# Altium footprint library Connector_Molex.PcbLib: 815 footprints (part 31 of 51)
Each footprint in its own frame and in the unit in brackets; x right, y up, seen from the top. Pads: shape width x height; smd on the part's side, far side on the other; paste and mask are expansions set on the pad; w line width, h text height; cw(c..) or ccw(c..) is an arc to the next point about the centre after c.
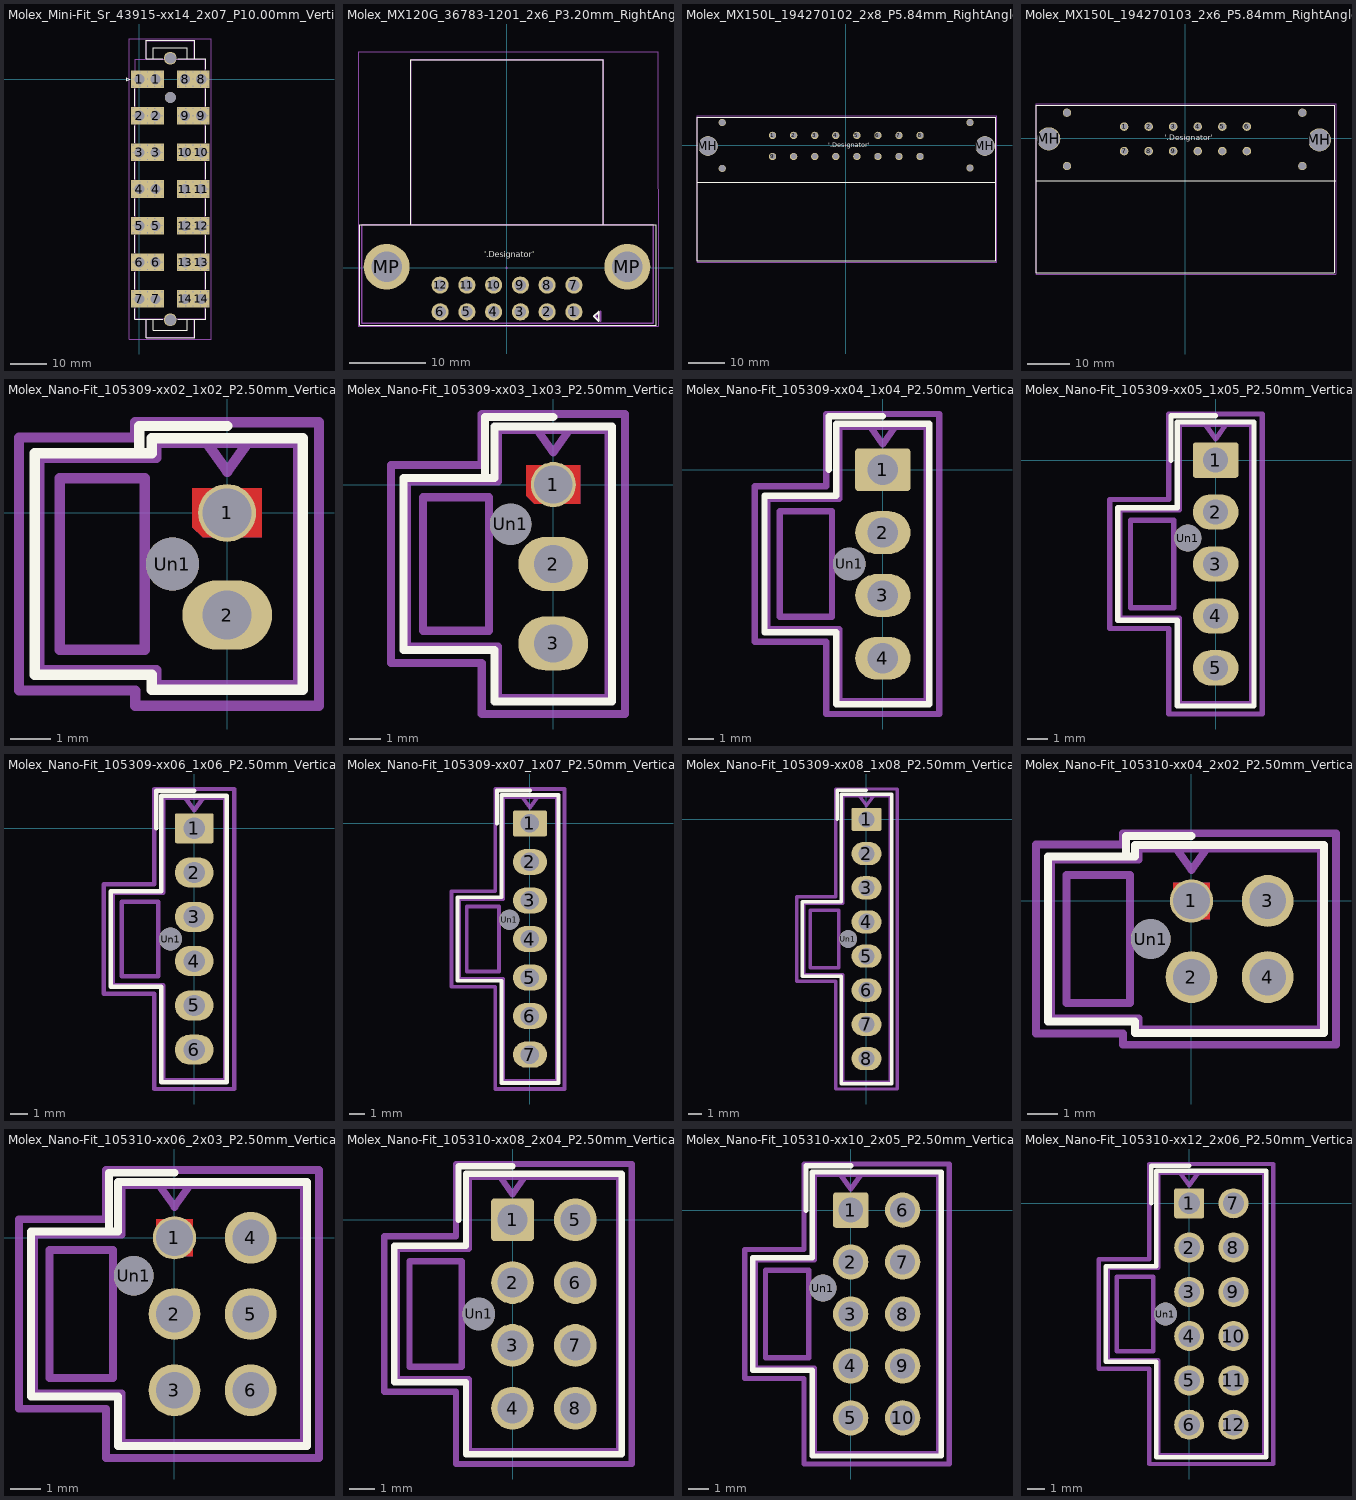
[diagram p30: the footprints below, top view; thin cyan lines are the x and y axes]

## Molex_Mini-Fit_Sr_43915-xx14_2x07_P10.00mm_Vertical_ThermalVias [mm]
pads (213):
  rrect25% 0.6x0.6 hole 0.3: 1(-1.8,-1.95) 1(-1.8,0) 1(-1.8,1.95) 1(0.2,-1.95) 1(0.2,1.95) 1(2.2,-1.95) 1(2.2,0) 1(2.2,1.95) 1(4.2,-1.95) 1(4.2,1.95) 1(6.2,-1.95) 1(6.2,0) 1(6.2,1.95)
  rect 4.5x4.8 hole 2.8: 1(0,0) 1(4.4,0) 2(0,-10) 2(4.4,-10) 3(0,-20) 3(4.4,-20) 4(0,-30) 4(4.4,-30) 5(0,-40) 5(4.4,-40) 6(0,-50) 6(4.4,-50) 7(0,-60) 7(4.4,-60) 8(12.46,0) 8(16.86,0) 9(12.46,-10) 9(16.86,-10) 10(12.46,-20) 10(16.86,-20) 11(12.46,-30) 11(16.86,-30) 12(12.46,-40) 12(16.86,-40) 13(12.46,-50) 13(16.86,-50) 14(12.46,-60) 14(16.86,-60)
  round 0.6 hole 0.3: 2(-1.8,-11.95) 2(-1.8,-10) 2(-1.8,-8.05) 2(0.2,-11.95) 2(0.2,-8.05) 2(2.2,-11.95) 2(2.2,-10) 2(2.2,-8.05) 2(4.2,-11.95) 2(4.2,-8.05) 2(6.2,-11.95) 2(6.2,-10) 2(6.2,-8.05) 3(-1.8,-21.95) 3(-1.8,-20) 3(-1.8,-18.05) 3(0.2,-21.95) 3(0.2,-18.05) 3(2.2,-21.95) 3(2.2,-20) 3(2.2,-18.05) 3(4.2,-21.95) 3(4.2,-18.05) 3(6.2,-21.95) 3(6.2,-20) 3(6.2,-18.05) 4(-1.8,-31.95) 4(-1.8,-30) 4(-1.8,-28.05) 4(0.2,-31.95) 4(0.2,-28.05) 4(2.2,-31.95) 4(2.2,-30) 4(2.2,-28.05) 4(4.2,-31.95) 4(4.2,-28.05) 4(6.2,-31.95) 4(6.2,-30) 4(6.2,-28.05) 5(-1.8,-41.95) 5(-1.8,-40) 5(-1.8,-38.05) 5(0.2,-41.95) 5(0.2,-38.05) 5(2.2,-41.95) 5(2.2,-40) 5(2.2,-38.05) 5(4.2,-41.95) 5(4.2,-38.05) 5(6.2,-41.95) 5(6.2,-40) 5(6.2,-38.05) 6(-1.8,-51.95) 6(-1.8,-50) 6(-1.8,-48.05) 6(0.2,-51.95) 6(0.2,-48.05) 6(2.2,-51.95) 6(2.2,-50) 6(2.2,-48.05) 6(4.2,-51.95) 6(4.2,-48.05) 6(6.2,-51.95) 6(6.2,-50) 6(6.2,-48.05) 7(-1.8,-61.95) 7(-1.8,-60) 7(-1.8,-58.05) 7(0.2,-61.95) 7(0.2,-58.05) 7(2.2,-61.95) 7(2.2,-60) 7(2.2,-58.05) 7(4.2,-61.95) 7(4.2,-58.05) 7(6.2,-61.95) 7(6.2,-60) 7(6.2,-58.05) 8(10.66,-1.95) 8(10.66,0) 8(10.66,1.95) 8(12.66,-1.95) 8(12.66,1.95) 8(14.66,-1.95) 8(14.66,0) 8(14.66,1.95) 8(16.66,-1.95) 8(16.66,1.95) 8(18.66,-1.95) 8(18.66,0) 8(18.66,1.95) 9(10.66,-11.95) 9(10.66,-10) 9(10.66,-8.05) 9(12.66,-11.95) 9(12.66,-8.05) 9(14.66,-11.95) 9(14.66,-10) 9(14.66,-8.05) 9(16.66,-11.95) 9(16.66,-8.05) 9(18.66,-11.95) 9(18.66,-10) 9(18.66,-8.05) 10(10.66,-21.95) 10(10.66,-20) 10(10.66,-18.05) 10(12.66,-21.95) 10(12.66,-18.05) 10(14.66,-21.95) 10(14.66,-20) 10(14.66,-18.05) 10(16.66,-21.95) 10(16.66,-18.05) 10(18.66,-21.95) 10(18.66,-20) 10(18.66,-18.05) 11(10.66,-31.95) 11(10.66,-30) 11(10.66,-28.05) 11(12.66,-31.95) 11(12.66,-28.05) 11(14.66,-31.95) 11(14.66,-30) 11(14.66,-28.05) 11(16.66,-31.95) 11(16.66,-28.05) 11(18.66,-31.95) 11(18.66,-30) 11(18.66,-28.05) 12(10.66,-41.95) 12(10.66,-40) 12(10.66,-38.05) 12(12.66,-41.95) 12(12.66,-38.05) 12(14.66,-41.95) 12(14.66,-40) 12(14.66,-38.05) 12(16.66,-41.95) 12(16.66,-38.05) 12(18.66,-41.95) 12(18.66,-40) 12(18.66,-38.05) 13(10.66,-51.95) 13(10.66,-50) 13(10.66,-48.05) 13(12.66,-51.95) 13(12.66,-48.05) 13(14.66,-51.95) 13(14.66,-50) 13(14.66,-48.05) 13(16.66,-51.95) 13(16.66,-48.05) 13(18.66,-51.95) 13(18.66,-50) 13(18.66,-48.05) 14(10.66,-61.95) 14(10.66,-60) 14(10.66,-58.05) 14(12.66,-61.95) 14(12.66,-58.05) 14(14.66,-61.95) 14(14.66,-60) 14(14.66,-58.05) 14(16.66,-61.95) 14(16.66,-58.05) 14(18.66,-61.95) 14(18.66,-60) 14(18.66,-58.05)
  round 3.5 hole 3: Un1(8.43,5.705) Un3(8.43,-65.705)
  round 3 hole 3: Un2(8.43,-5)
F.SilkS:
  lines w0.254: -1.27,-62.66 -1.27,-65.57 6.43,-65.57 ; -1.27,-57.34 -1.27,-52.66 ; -1.27,-47.34 -1.27,-42.66 ; -1.27,-37.34 -1.27,-32.66 ; -1.27,-27.34 -1.27,-22.66 ; -1.27,-17.34 -1.27,-12.66 ; -1.27,-7.34 -1.27,-2.66 ; 1.81,-65.57 1.81,-70.57 15.05,-70.57 15.05,-65.57 ; 3.81,-65.57 3.81,-68.57 13.05,-68.57 13.05,-65.57 ; 3.81,5.57 3.81,8.57 13.05,8.57 13.05,5.57 ; 6.43,5.57 1.81,5.57 1.81,10.57 15.05,10.57 15.05,5.57 ; 10.43,-65.57 18.13,-65.57 18.13,-62.66 ; 10.43,5.57 18.13,5.57 18.13,2.66 ; 18.13,-57.34 18.13,-52.66 ; 18.13,-47.34 18.13,-42.66 ; 18.13,-37.34 18.13,-32.66 ; 18.13,-27.34 18.13,-22.66 ; 18.13,-17.34 18.13,-12.66 ; 18.13,-7.34 18.13,-2.66 ; -3.45,-0.4 -2.65,0 -3.45,0.4 -3.45,-0.4
B.SilkS:
  lines w0.254: -2.51,-2.66 6.91,-2.66 6.91,2.66 -2.51,2.66 -2.51,-2.66
Top Assembly:
  lines w0.254: -1.15,-1.5 0.971,0 -1.15,1.5 ; 1.93,-65.45 1.93,-70.45 14.93,-70.45 14.93,-65.45 ; 1.93,5.45 1.93,10.45 14.93,10.45 14.93,5.45 ; -1.15,-65.45 18.01,-65.45 18.01,5.45 -1.15,5.45 -1.15,-65.45
  text "'.Designator'" at 4.383,-65.59 h1
Top Courtyard:
  lines w0.254: -2.75,-70.95 19.61,-70.95 19.61,10.96 -2.75,10.96 -2.75,-70.95
Top Designator:
  text ".Designator" at 0.462,-30.503 h1.52

## Molex_MX120G_36783-1201_2x6_P3.20mm_RightAngle_THT [mm]
pads (14):
  round 2.25 hole 1.5: 1(8.81,-5.758) 2(5.31,-5.758) 3(1.81,-5.758) 4(-1.69,-5.758) 5(-5.19,-5.758) 6(-8.69,-5.758) 7(8.81,-2.258) 8(5.31,-2.258) 9(1.81,-2.258) 10(-1.69,-2.258) 11(-5.19,-2.258) 12(-8.69,-2.258)
  round 6 hole 4: MP(-15.69,0.142) MP(15.81,0.142)
F.SilkS:
  lines w0.1: -12.54,5.642 -12.54,27.242 12.66,27.242 12.66,5.642 ; -19.177,-7.493 19.558,-7.493 19.558,5.642 -19.177,5.642 -19.177,-7.493
  lines w0.254: 11.43,-6.35 12.065,-6.985 12.065,-5.715 11.43,-6.35
  text "'.Designator'" at -2.939,1.11 h1.27
Top Component Center:
  lines w0.127: -0.127,0 0.127,0 ; 0,-0.127 0,0.127
Top Assembly:
  lines w0.2: -12.54,5.642 -12.54,27.242 12.66,27.242 12.66,5.642 ; -18.923,-7.239 19.177,-7.239 19.177,5.642 -18.923,5.642 -18.923,-7.239
  lines w0.254: 11.684,-6.35 12.319,-5.715 12.319,-6.985 11.684,-6.35
  text "'.Designator'" at -2.685,1.618 h1.27
Top Courtyard:
  lines w0.1: -19.431,-7.62 -19.431,28.242 19.812,28.242 19.812,-7.62 -19.431,-7.62
Top Designator:
  text ".Designator" at -2.799,1.56 h1.52
3D body "Molex_MX120G_36783-1201_2x6_P3.20mm_RightAngle_THT.stp": height 24.08, standoff -3.54, extent -18.552,-6.169 18.806,26.289

## Molex_MX150L_194270102_2x8_P5.84mm_RightAngle [mil]
pads (22):
  round 80 / inner round 60 / far side round 80 hole 60 paste-99999 mask+0: 1(-800,110) 2(-570,110) 3(-340,110) 4(-110,110) 5(120,110) 6(350,110) 7(580,110) 8(810,110) 9(-800,-120) 10(-570,-120) 11(-340,-120) 12(-110,-120) 13(120,-120) 14(350,-120) 15(580,-120) 16(810,-120)
  round 216.54 hole 206.69 unplated paste-99999 mask+0: MH(-1506,-5) MH(1518,-5)
  round 78.74 hole 68.9 unplated paste-99999 mask+0: MH(-1350,-250) MH(-1350,250) MH(1355,-245) MH(1355,250)
F.SilkS:
  lines w6: -1624,-1260 1636,-1260 1636,311 -1624,311 -1624,-1260
  lines w10: -1620,-400 1635,-400
  text "'.Designator'" at -194.84,-17.85 h50
Top Component Center:
  lines w5: -5,0 5,0 ; 0,-5 0,5
Top Assembly:
  lines w10: -1625,-1275 1650,-1275 1650,325 -1625,325 -1625,-1275
Top Designator:
  text ".Designator" at -294.9,200.01 h60
3D body "Molex_MX150L_194270102_2x8_P5.84mm_RightAngle.stp": height 1272.66, standoff -129.64, extent -1645.25,-1251 1655.25,310

## Molex_MX150L_194270103_2x6_P5.84mm_RightAngle [mil]
pads (18):
  round 80 / inner round 60 / far side round 80 hole 60 paste-99999 mask+0: 1(-575,110) 2(-345,110) 3(-115,110) 4(115,110) 5(345,110) 6(575,110) 7(-575,-120) 8(-345,-120) 9(-115,-120) 10(115,-120) 11(345,-120) 12(575,-120)
  round 216.54 hole 206.69 unplated paste-99999 mask+0: MH(-1281,-5) MH(1255,-15)
  round 78.74 hole 68.9 unplated paste-99999 mask+0: MH(-1110,-260) MH(-1110,240) MH(1095,-260) MH(1095,240)
F.SilkS:
  lines w6: -1399,-1260 1395,-1260 1395,311 -1399,311 -1399,-1260
  lines w10: -1395,-400 1410,-400
  text "'.Designator'" at -194.84,-17.85 h50
Top Component Center:
  lines w5: -5,0 5,0 ; 0,-5 0,5
Top Assembly:
  lines w10: -1400,-1275 1410,-1275 1410,325 -1400,325 -1400,-1275
Top Designator:
  text ".Designator" at -299.9,205.01 h60
3D body "Molex_MX150L_194270103_2x6_P5.84mm_RightAngle.stp": height 1259.75, standoff -142.56, extent -1392,-1250 1402,311

## Molex_Nano-Fit_105309-xx02_1x02_P2.50mm_Vertical [mm]
pads (3):
  round 1.417 hole 1.2: 1(0,0)
  rrect100% 2.2x1.7 hole 1.2: 2(0,-2.5)
  round 1.3 hole 1.3: Un1(-1.34,-1.25)
F.Cu:
  region: 0.85,-0.6 -0.596,-0.6 -0.85,-0.346 -0.85,0.6 0.85,0.6
B.Cu:
  region: 0.85,-0.6 -0.596,-0.6 -0.85,-0.346 -0.85,0.6 0.85,0.6
F.SilkS:
  lines w0.254: -2.15,1.46 -2.15,2.13 0,2.13 ; -4.71,-3.96 -4.71,-1.25 -4.71,1.46 -1.85,1.46 -1.85,1.83 1.85,1.83 1.85,-1.25 1.85,-4.33 -1.85,-4.33 -1.85,-3.96 -4.71,-3.96
F.Mask:
  region: 0.85,-0.6 -0.596,-0.6 -0.85,-0.346 -0.85,0.6 0.85,0.6
B.Mask:
  region: 0.85,-0.6 -0.596,-0.6 -0.85,-0.346 -0.85,0.6 0.85,0.6
Top Assembly:
  lines w0.254: -0.5,1.72 0,1.013 0.5,1.72 ; -4.6,-3.85 -4.6,-1.25 -4.6,1.35 -1.74,1.35 -1.74,1.72 1.74,1.72 1.74,-1.25 1.74,-4.22 -1.74,-4.22 -1.74,-3.85 -4.6,-3.85 ; -4.1,-3.35 -4.1,0.85 -2.02,0.85 -2.02,-3.35 -4.1,-3.35
  text "'.Designator'" at 1.831,-4.77 h0.87
Top Courtyard:
  lines w0.254: -5.1,-4.35 -5.1,-1.25 -5.1,1.85 -2.25,1.85 -2.25,2.22 2.25,2.22 2.25,-1.25 2.25,-4.72 -2.25,-4.72 -2.25,-4.35 -5.1,-4.35
Top Designator:
  text ".Designator" at -9.043,-1.784 h1.52

## Molex_Nano-Fit_105309-xx03_1x03_P2.50mm_Vertical [mm]
pads (4):
  round 1.417 hole 1.2: 1(0,0)
  rrect100% 2.2x1.7 hole 1.2: 2(0,-2.5) 3(0,-5)
  round 1.3 hole 1.3: Un1(-1.34,-1.25)
F.Cu:
  region: 0.85,-0.6 -0.596,-0.6 -0.85,-0.346 -0.85,0.6 0.85,0.6
B.Cu:
  region: 0.85,-0.6 -0.596,-0.6 -0.85,-0.346 -0.85,0.6 0.85,0.6
F.SilkS:
  lines w0.254: -2.15,0.21 -2.15,2.13 0,2.13 ; -4.71,-5.21 -1.85,-5.21 -1.85,-6.83 1.85,-6.83 1.85,-2.5 1.85,1.83 -1.85,1.83 -1.85,0.21 -4.71,0.21 -4.71,-2.5 -4.71,-5.21
F.Mask:
  region: 0.85,-0.6 -0.596,-0.6 -0.85,-0.346 -0.85,0.6 0.85,0.6
B.Mask:
  region: 0.85,-0.6 -0.596,-0.6 -0.85,-0.346 -0.85,0.6 0.85,0.6
Top Assembly:
  lines w0.254: -0.5,1.72 0,1.013 0.5,1.72 ; -4.6,-5.1 -1.74,-5.1 -1.74,-6.72 1.74,-6.72 1.74,-2.5 1.74,1.72 -1.74,1.72 -1.74,0.1 -4.6,0.1 -4.6,-2.5 -4.6,-5.1 ; -4.1,-4.6 -2.02,-4.6 -2.02,-0.4 -4.1,-0.4 -4.1,-4.6
  text "'.Designator'" at 1.831,-6.02 h0.87
Top Courtyard:
  lines w0.254: -5.1,-5.61 -2.25,-5.61 -2.25,-7.22 2.25,-7.22 2.25,-2.5 2.25,2.22 -2.25,2.22 -2.25,0.61 -5.1,0.61 -5.1,-2.5 -5.1,-5.61
Top Designator:
  text ".Designator" at -9.043,-3.008 h1.52

## Molex_Nano-Fit_105309-xx04_1x04_P2.50mm_Vertical [mm]
pads (5):
  rrect15% 2.2x1.7 hole 1.2: 1(0,0)
  rrect100% 2.2x1.7 hole 1.2: 2(0,-2.5) 3(0,-5) 4(0,-7.5)
  round 1.3 hole 1.3: Un1(-1.34,-3.75)
F.SilkS:
  lines w0.254: -2.15,0 -2.15,2.13 0,2.13 ; -4.71,-6.46 -4.71,-3.75 -4.71,-1.04 -1.85,-1.04 -1.85,1.83 1.85,1.83 1.85,-3.75 1.85,-9.33 -1.85,-9.33 -1.85,-6.46 -4.71,-6.46
Top Assembly:
  lines w0.254: -0.5,1.72 0,1.013 0.5,1.72 ; -4.6,-6.35 -4.6,-3.75 -4.6,-1.15 -1.74,-1.15 -1.74,1.72 1.74,1.72 1.74,-3.75 1.74,-9.22 -1.74,-9.22 -1.74,-6.35 -4.6,-6.35 ; -4.1,-5.85 -4.1,-1.65 -2.02,-1.65 -2.02,-5.85 -4.1,-5.85
  text "'.Designator'" at 1.831,-7.27 h0.87
Top Courtyard:
  lines w0.254: -5.1,-6.85 -5.1,-3.75 -5.1,-0.65 -2.25,-0.65 -2.25,2.22 2.25,2.22 2.25,-3.75 2.25,-9.72 -2.25,-9.72 -2.25,-6.85 -5.1,-6.85
Top Designator:
  text ".Designator" at -9.043,-4.258 h1.52

## Molex_Nano-Fit_105309-xx05_1x05_P2.50mm_Vertical [mm]
pads (6):
  rrect15% 2.2x1.7 hole 1.2: 1(0,0)
  rrect100% 2.2x1.7 hole 1.2: 2(0,-2.5) 3(0,-5) 4(0,-7.5) 5(0,-10)
  round 1.3 hole 1.3: Un1(-1.34,-3.75)
F.SilkS:
  lines w0.254: -2.15,0 -2.15,2.13 0,2.13 ; -4.71,-7.71 -4.71,-5 -4.71,-2.29 -1.85,-2.29 -1.85,1.83 1.85,1.83 1.85,-5 1.85,-11.83 -1.85,-11.83 -1.85,-7.71 -4.71,-7.71
Top Assembly:
  lines w0.254: -0.5,1.72 0,1.013 0.5,1.72 ; -4.6,-7.6 -4.6,-5 -4.6,-2.4 -1.74,-2.4 -1.74,1.72 1.74,1.72 1.74,-5 1.74,-11.72 -1.74,-11.72 -1.74,-7.6 -4.6,-7.6 ; -4.1,-7.1 -4.1,-2.9 -2.02,-2.9 -2.02,-7.1 -4.1,-7.1
  text "'.Designator'" at 1.831,-8.52 h0.87
Top Courtyard:
  lines w0.254: -5.1,-8.1 -5.1,-5 -5.1,-1.9 -2.25,-1.9 -2.25,2.22 2.25,2.22 2.25,-5 2.25,-12.22 -2.25,-12.22 -2.25,-8.1 -5.1,-8.1
Top Designator:
  text ".Designator" at -9.043,-5.508 h1.52

## Molex_Nano-Fit_105309-xx06_1x06_P2.50mm_Vertical [mm]
pads (7):
  rrect15% 2.2x1.7 hole 1.2: 1(0,0)
  rrect100% 2.2x1.7 hole 1.2: 2(0,-2.5) 3(0,-5) 4(0,-7.5) 5(0,-10) 6(0,-12.5)
  round 1.3 hole 1.3: Un1(-1.34,-6.25)
F.SilkS:
  lines w0.254: -2.15,0 -2.15,2.13 0,2.13 ; -4.71,-8.96 -1.85,-8.96 -1.85,-14.33 1.85,-14.33 1.85,-6.25 1.85,1.83 -1.85,1.83 -1.85,-3.54 -4.71,-3.54 -4.71,-6.25 -4.71,-8.96
Top Assembly:
  lines w0.254: -0.5,1.72 0,1.013 0.5,1.72 ; -4.6,-8.85 -1.74,-8.85 -1.74,-14.22 1.74,-14.22 1.74,-6.25 1.74,1.72 -1.74,1.72 -1.74,-3.65 -4.6,-3.65 -4.6,-6.25 -4.6,-8.85 ; -4.1,-8.35 -2.02,-8.35 -2.02,-4.15 -4.1,-4.15 -4.1,-8.35
  text "'.Designator'" at 1.831,-9.77 h0.87
Top Courtyard:
  lines w0.254: -5.1,-9.35 -2.25,-9.35 -2.25,-14.72 2.25,-14.72 2.25,-6.25 2.25,2.22 -2.25,2.22 -2.25,-3.15 -5.1,-3.15 -5.1,-6.25 -5.1,-9.35
Top Designator:
  text ".Designator" at -9.043,-6.758 h1.52

## Molex_Nano-Fit_105309-xx07_1x07_P2.50mm_Vertical [mm]
pads (8):
  rrect15% 2.2x1.7 hole 1.2: 1(0,0)
  rrect100% 2.2x1.7 hole 1.2: 2(0,-2.5) 3(0,-5) 4(0,-7.5) 5(0,-10) 6(0,-12.5) 7(0,-15)
  round 1.3 hole 1.3: Un1(-1.34,-6.25)
F.SilkS:
  lines w0.254: -2.15,0 -2.15,2.13 0,2.13 ; -4.71,-10.21 -1.85,-10.21 -1.85,-16.83 1.85,-16.83 1.85,-7.5 1.85,1.83 -1.85,1.83 -1.85,-4.79 -4.71,-4.79 -4.71,-7.5 -4.71,-10.21
Top Assembly:
  lines w0.254: -0.5,1.72 0,1.013 0.5,1.72 ; -4.6,-10.1 -1.74,-10.1 -1.74,-16.72 1.74,-16.72 1.74,-7.5 1.74,1.72 -1.74,1.72 -1.74,-4.9 -4.6,-4.9 -4.6,-7.5 -4.6,-10.1 ; -4.1,-9.6 -2.02,-9.6 -2.02,-5.4 -4.1,-5.4 -4.1,-9.6
  text "'.Designator'" at 1.831,-11.02 h0.87
Top Courtyard:
  lines w0.254: -5.1,-10.6 -2.25,-10.6 -2.25,-17.23 2.25,-17.23 2.25,-7.5 2.25,2.23 -2.25,2.23 -2.25,-4.4 -5.1,-4.4 -5.1,-7.5 -5.1,-10.6
Top Designator:
  text ".Designator" at -9.043,-8.008 h1.52

## Molex_Nano-Fit_105309-xx08_1x08_P2.50mm_Vertical [mm]
pads (9):
  rrect15% 2.2x1.7 hole 1.2: 1(0,0)
  rrect100% 2.2x1.7 hole 1.2: 2(0,-2.5) 3(0,-5) 4(0,-7.5) 5(0,-10) 6(0,-12.5) 7(0,-15) 8(0,-17.5)
  round 1.3 hole 1.3: Un1(-1.34,-8.75)
F.SilkS:
  lines w0.254: -2.15,0 -2.15,2.13 0,2.13 ; -4.71,-11.46 -1.85,-11.46 -1.85,-19.33 1.85,-19.33 1.85,-8.75 1.85,1.83 -1.85,1.83 -1.85,-6.04 -4.71,-6.04 -4.71,-8.75 -4.71,-11.46
Top Assembly:
  lines w0.254: -0.5,1.72 0,1.013 0.5,1.72 ; -4.6,-11.35 -1.74,-11.35 -1.74,-19.22 1.74,-19.22 1.74,-8.75 1.74,1.72 -1.74,1.72 -1.74,-6.15 -4.6,-6.15 -4.6,-8.75 -4.6,-11.35 ; -4.1,-10.85 -2.02,-10.85 -2.02,-6.65 -4.1,-6.65 -4.1,-10.85
  text "'.Designator'" at 1.831,-12.27 h0.87
Top Courtyard:
  lines w0.254: -5.1,-11.85 -2.25,-11.85 -2.25,-19.73 2.25,-19.73 2.25,-8.75 2.25,2.23 -2.25,2.23 -2.25,-5.65 -5.1,-5.65 -5.1,-8.75 -5.1,-11.85
Top Designator:
  text ".Designator" at -9.043,-9.258 h1.52

## Molex_Nano-Fit_105310-xx04_2x02_P2.50mm_Vertical [mm]
pads (5):
  round 1.417 hole 1.2: 1(0,0)
  round 1.7 hole 1.2: 2(0,-2.5) 3(2.5,0) 4(2.5,-2.5)
  round 1.3 hole 1.3: Un1(-1.34,-1.25)
F.Cu:
  region: 0.6,-0.6 -0.346,-0.6 -0.6,-0.346 -0.6,0.6 0.6,0.6
B.Cu:
  region: 0.6,-0.6 -0.346,-0.6 -0.6,-0.346 -0.6,0.6 0.6,0.6
F.SilkS:
  lines w0.254: -2.15,1.46 -2.15,2.13 0,2.13 ; -4.71,-3.96 -1.85,-3.96 -1.85,-4.33 4.35,-4.33 4.35,-1.25 4.35,1.83 -1.85,1.83 -1.85,1.46 -4.71,1.46 -4.71,-1.25 -4.71,-3.96
F.Mask:
  region: 0.6,-0.6 -0.346,-0.6 -0.6,-0.346 -0.6,0.6 0.6,0.6
B.Mask:
  region: 0.6,-0.6 -0.346,-0.6 -0.6,-0.346 -0.6,0.6 0.6,0.6
Top Assembly:
  lines w0.254: -0.5,1.72 0,1.013 0.5,1.72 ; -4.6,-3.85 -1.74,-3.85 -1.74,-4.22 4.24,-4.22 4.24,-1.25 4.24,1.72 -1.74,1.72 -1.74,1.35 -4.6,1.35 -4.6,-1.25 -4.6,-3.85 ; -4.1,-3.35 -2.02,-3.35 -2.02,0.85 -4.1,0.85 -4.1,-3.35
  text "'.Designator'" at 4.38,-5.297 h1
Top Courtyard:
  lines w0.254: -5.1,-4.35 -2.25,-4.35 -2.25,-4.72 4.74,-4.72 4.74,-1.25 4.74,2.22 -2.25,2.22 -2.25,1.85 -5.1,1.85 -5.1,-1.25 -5.1,-4.35
Top Designator:
  text ".Designator" at -7.798,-1.908 h1.52

## Molex_Nano-Fit_105310-xx06_2x03_P2.50mm_Vertical [mm]
pads (7):
  round 1.417 hole 1.2: 1(0,0)
  round 1.7 hole 1.2: 2(0,-2.5) 3(0,-5) 4(2.5,0) 5(2.5,-2.5) 6(2.5,-5)
  round 1.3 hole 1.3: Un1(-1.34,-1.25)
F.Cu:
  region: 0.6,-0.6 -0.346,-0.6 -0.6,-0.346 -0.6,0.6 0.6,0.6
B.Cu:
  region: 0.6,-0.6 -0.346,-0.6 -0.6,-0.346 -0.6,0.6 0.6,0.6
F.SilkS:
  lines w0.254: -2.15,0.21 -2.15,2.13 0,2.13 ; -4.71,-5.21 -1.85,-5.21 -1.85,-6.83 4.35,-6.83 4.35,-2.5 4.35,1.83 -1.85,1.83 -1.85,0.21 -4.71,0.21 -4.71,-2.5 -4.71,-5.21
F.Mask:
  region: 0.6,-0.6 -0.346,-0.6 -0.6,-0.346 -0.6,0.6 0.6,0.6
B.Mask:
  region: 0.6,-0.6 -0.346,-0.6 -0.6,-0.346 -0.6,0.6 0.6,0.6
Top Assembly:
  lines w0.254: -0.5,1.72 0,1.013 0.5,1.72 ; -4.6,-5.1 -1.74,-5.1 -1.74,-6.72 4.24,-6.72 4.24,-2.5 4.24,1.72 -1.74,1.72 -1.74,0.1 -4.6,0.1 -4.6,-2.5 -4.6,-5.1 ; -4.1,-4.6 -2.02,-4.6 -2.02,-0.4 -4.1,-0.4 -4.1,-4.6
  text "'.Designator'" at 4.38,-6.547 h1
Top Courtyard:
  lines w0.254: -5.1,-5.61 -2.25,-5.61 -2.25,-7.22 4.74,-7.22 4.74,-2.5 4.74,2.22 -2.25,2.22 -2.25,0.61 -5.1,0.61 -5.1,-2.5 -5.1,-5.61
Top Designator:
  text ".Designator" at -7.798,-3.008 h1.52

## Molex_Nano-Fit_105310-xx08_2x04_P2.50mm_Vertical [mm]
pads (9):
  rrect15% 1.7x1.7 hole 1.2: 1(0,0)
  round 1.7 hole 1.2: 2(0,-2.5) 3(0,-5) 4(0,-7.5) 5(2.5,0) 6(2.5,-2.5) 7(2.5,-5) 8(2.5,-7.5)
  round 1.3 hole 1.3: Un1(-1.34,-3.75)
F.SilkS:
  lines w0.254: -2.15,0 -2.15,2.13 0,2.13 ; -4.71,-6.46 -1.85,-6.46 -1.85,-9.33 4.35,-9.33 4.35,-3.75 4.35,1.83 -1.85,1.83 -1.85,-1.04 -4.71,-1.04 -4.71,-3.75 -4.71,-6.46
Top Assembly:
  lines w0.254: -0.5,1.72 0,1.013 0.5,1.72 ; -4.6,-6.35 -1.74,-6.35 -1.74,-9.22 4.24,-9.22 4.24,-3.75 4.24,1.72 -1.74,1.72 -1.74,-1.15 -4.6,-1.15 -4.6,-3.75 -4.6,-6.35 ; -4.1,-5.85 -2.02,-5.85 -2.02,-1.65 -4.1,-1.65 -4.1,-5.85
  text "'.Designator'" at 4.38,-7.797 h1
Top Courtyard:
  lines w0.254: -5.1,-6.85 -2.25,-6.85 -2.25,-9.72 4.74,-9.72 4.74,-3.75 4.74,2.22 -2.25,2.22 -2.25,-0.65 -5.1,-0.65 -5.1,-3.75 -5.1,-6.85
Top Designator:
  text ".Designator" at -7.798,-4.258 h1.52

## Molex_Nano-Fit_105310-xx10_2x05_P2.50mm_Vertical [mm]
pads (11):
  rrect15% 1.7x1.7 hole 1.2: 1(0,0)
  round 1.7 hole 1.2: 2(0,-2.5) 3(0,-5) 4(0,-7.5) 5(0,-10) 6(2.5,0) 7(2.5,-2.5) 8(2.5,-5) 9(2.5,-7.5) 10(2.5,-10)
  round 1.3 hole 1.3: Un1(-1.34,-3.75)
F.SilkS:
  lines w0.254: -2.15,0 -2.15,2.13 0,2.13 ; -4.71,-7.71 -1.85,-7.71 -1.85,-11.83 4.35,-11.83 4.35,-5 4.35,1.83 -1.85,1.83 -1.85,-2.29 -4.71,-2.29 -4.71,-5 -4.71,-7.71
Top Assembly:
  lines w0.254: -0.5,1.72 0,1.013 0.5,1.72 ; -4.6,-7.6 -1.74,-7.6 -1.74,-11.72 4.24,-11.72 4.24,-5 4.24,1.72 -1.74,1.72 -1.74,-2.4 -4.6,-2.4 -4.6,-5 -4.6,-7.6 ; -4.1,-7.1 -2.02,-7.1 -2.02,-2.9 -4.1,-2.9 -4.1,-7.1
  text "'.Designator'" at 4.38,-9.047 h1
Top Courtyard:
  lines w0.254: -5.1,-8.1 -2.25,-8.1 -2.25,-12.22 4.74,-12.22 4.74,-5 4.74,2.22 -2.25,2.22 -2.25,-1.9 -5.1,-1.9 -5.1,-5 -5.1,-8.1
Top Designator:
  text ".Designator" at -7.798,-5.508 h1.52

## Molex_Nano-Fit_105310-xx12_2x06_P2.50mm_Vertical [mm]
pads (13):
  rrect15% 1.7x1.7 hole 1.2: 1(0,0)
  round 1.7 hole 1.2: 2(0,-2.5) 3(0,-5) 4(0,-7.5) 5(0,-10) 6(0,-12.5) 7(2.5,0) 8(2.5,-2.5) 9(2.5,-5) 10(2.5,-7.5) 11(2.5,-10) 12(2.5,-12.5)
  round 1.3 hole 1.3: Un1(-1.34,-6.25)
F.SilkS:
  lines w0.254: -2.15,0 -2.15,2.13 0,2.13 ; -4.71,-8.96 -1.85,-8.96 -1.85,-14.33 4.35,-14.33 4.35,-6.25 4.35,1.83 -1.85,1.83 -1.85,-3.54 -4.71,-3.54 -4.71,-6.25 -4.71,-8.96
Top Assembly:
  lines w0.254: -0.5,1.72 0,1.013 0.5,1.72 ; -4.6,-8.85 -1.74,-8.85 -1.74,-14.22 4.24,-14.22 4.24,-6.25 4.24,1.72 -1.74,1.72 -1.74,-3.65 -4.6,-3.65 -4.6,-6.25 -4.6,-8.85 ; -4.1,-8.35 -2.02,-8.35 -2.02,-4.15 -4.1,-4.15 -4.1,-8.35
  text "'.Designator'" at 4.38,-10.297 h1
Top Courtyard:
  lines w0.254: -5.1,-9.35 -2.25,-9.35 -2.25,-14.72 4.74,-14.72 4.74,-6.25 4.74,2.22 -2.25,2.22 -2.25,-3.15 -5.1,-3.15 -5.1,-6.25 -5.1,-9.35
Top Designator:
  text ".Designator" at -7.798,-6.758 h1.52